# Altium schematic symbol library EF_BNX023-01.Schlib: 1 symbol
Pins are listed as number, name and electrical type; pins without a type are passive.

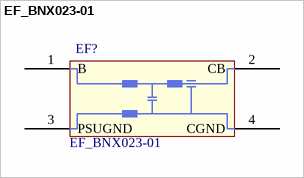
[diagram p0: symbol EF_BNX023-01]

## EF_BNX023-01
designator EF?
SMD noise suppresion filter on DC power lines
pins: 1 B, 2 CB, 3 PSUGND, 4 CGND